# Altium schematic symbol library REF3030AIDBZR.Schlib: 1 symbol
Pins are listed as number, name and electrical type; pins without a type are passive.

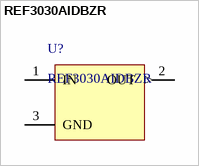
[diagram p0: symbol REF3030AIDBZR]

## REF3030AIDBZR
designator U?
3V ±0.2% 3.05V~5.5V 25mA Fixed SOT-23 Voltage References ROHS
pins: 1 IN (power), 2 OUT (out), 3 GND (power)